# Altium footprint library Passives.PcbLib: 75 footprints (part 1 of 5)
Each footprint in its own frame and in the unit in brackets; x right, y up, seen from the top. Pads: shape width x height; smd on the part's side, far side on the other; paste and mask are expansions set on the pad; w line width, h text height; cw(c..) or ccw(c..) is an arc to the next point about the centre after c.
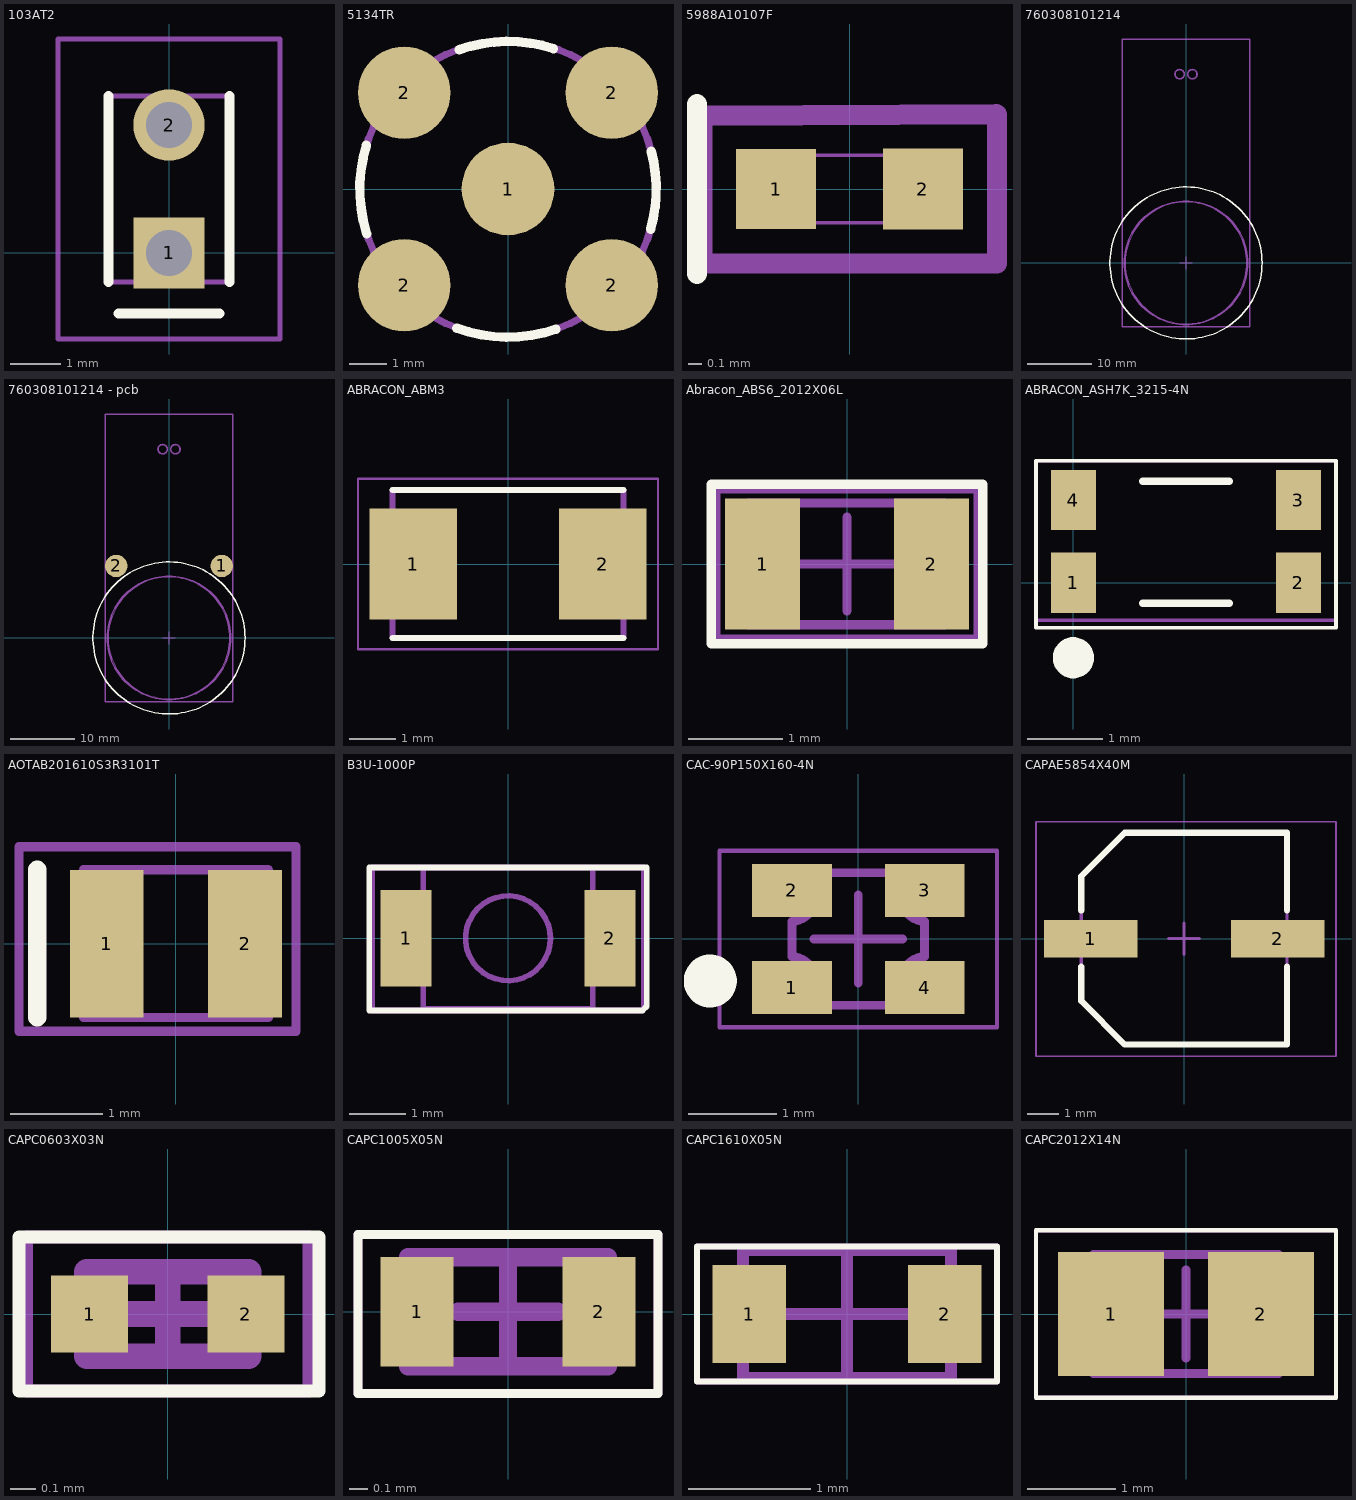
[diagram p0: the footprints below, top view; thin cyan lines are the x and y axes]

## 103AT2 [mm]
pads (2):
  rect 1.416x1.416 hole 0.91: 1(0,0)
  round 1.416 hole 0.91: 2(0,2.54)
Top Overlay:
  lines w0.2: -1.2,-0.58 -1.2,3.12 ; -1,-1.2 1,-1.2 ; 1.2,-0.58 1.2,3.12
Bottom Overlay:
  lines w0.2: -1.2,-0.6 -1.2,3.1 ; -1,-1.22 1,-1.22 ; 1.2,-0.6 1.2,3.1
Top Assembly:
  lines w0.1: -1.2,-0.58 -1.2,3.12 1.2,3.12 1.2,-0.58 -1.2,-0.58
Bottom Assembly (Mech20):
  lines w0.1: -2.2,-1.708 -2.2,4.248 2.2,4.248 2.2,-1.708 -2.2,-1.708
3D body "103AT-2.stp": height 6.5, standoff -10.5, extent -1.2,-0.55 1.2,3.15

## 5134TR [mm]
pads (5):
  round 2.5 smd: 1(0,0) 2(-2.8,-2.6) 2(-2.8,2.6) 2(2.8,-2.6) 2(2.8,2.6)
Top Overlay:
  lines w0.254: -3.824,1.177 ccw(c0,0) -3.816,-1.205 ; -1.383,-3.755 ccw(c0,0) 1.295,-3.786 ; -1.321,3.76 cw(c0,0) 1.229,3.791 ; 3.851,-1.086 ccw(c0,0) 3.87,1.018
Top Assembly:
  circle w0.2: c0,0 r4
Top Courtyard:
  circle w0.2: c0,0 r4
  text ".Designator" at -0.1,-0.1 h1.52
3D body "keystone-PN5134TR.STEP": height 0.5, standoff 0, extent -5.939,-5.939 5.939,5.939

## 5988A10107F [mm]
pads (2):
  rect 0.6x0.6 smd paste+0 mask+0: 1(-0.55,0)
  rect 0.597x0.61 smd paste+0 mask+0: 2(0.55,0)
Top Overlay:
  lines w0.152: -1.143,-0.635 -1.143,0.635
Top 3D Body:
  lines w0.025: -0.495,-0.254 -0.495,0.254 0.495,0.254 0.495,-0.254 -0.495,-0.254
Top Assembly:
  lines w0.152: -1.105,-0.559 -1.105,0.559 ; -1.1,-0.559 1.1,-0.559 ; -1.075,0.55 1.1,0.56 ; 1.105,-0.559 1.105,0.559
Top Courtyard:
  text ".Designator" at -0.973,-0.206 h0.8
3D body "LED_5988A10107F_DIA.step": height 0.41, standoff 0, extent -0.495,-0.257 0.495,0.257

## 760308101214 [mm] "Wireless Power Transfer Receiver Coil,  Dia 19mm"
height 0.8
Top Overlay:
  circle w0.2: c0,0 r11.885
Board:
  text "Pitch 2mm min." at -6,27 h2
Mechanical 11:
  circle w0.1: c0,0 r9.5
Top Assembly:
  circle w0.254: c1,29.5 r0.728
  circle w0.254: c-1,29.5 r0.728
  lines w0.1: -1,0 1,0 ; 0,-1 0,1
  lines w0.2: -10,-10 -10,35 10,35 10,-10 -10,-10
Top Courtyard:
  circle w0.2: c0,0 r9.65
  lines w0.2: -10,-10 10,-10 10,35 -10,35 -10,-10
  text ".Designator" at 0,0 h1.52
3D body "760308101214.stp": height 0.91, standoff 0.05, extent -9.499,-9.5 9.5,34.5

## 760308101214 - pcb [mm] "Wireless Power Transfer Receiver Coil,  Dia 19mm"
height 0.8
pads (2):
  round 3.5 smd paste+0: 1(8.25,11.25) 2(-8.25,11.25)
Top Overlay:
  circle w0.2: c0,0 r11.885
Board:
  text "Pitch 2mm min." at -6,27 h2
Mechanical 11:
  circle w0.1: c0,0 r9.5
Top Assembly:
  circle w0.254: c1,29.5 r0.728
  circle w0.254: c-1,29.5 r0.728
  lines w0.1: -1,0 1,0 ; 0,-1 0,1
  lines w0.2: -10,-10 -10,35 10,35 10,-10 -10,-10
Top Courtyard:
  circle w0.2: c0,0 r9.65
  lines w0.2: -10,-10 10,-10 10,35 -10,35 -10,-10
  text ".Designator" at 0,0 h1.52
3D body "760308101214.stp": height 0.91, standoff 0.05, extent -9.499,-9.5 9.5,34.5

## ABRACON_ABM3 [mm]
height 1.3
pads (2):
  rect 1.9x2.4 smd: 1(-2.05,0) 2(2.05,0)
Top Overlay:
  lines w0.127: -2.5,-1.6 2.5,-1.6 ; -2.5,1.6 2.5,1.6
Top 3D Body:
  lines w0.127: -2.5,-1.6 -2.5,1.6 2.5,1.6 2.5,-1.6 -2.5,-1.6
Top Assembly:
  lines w0.05: -3.25,-1.85 -3.25,1.85 3.25,1.85 3.25,-1.85 -3.25,-1.85
Top Courtyard:
  text ".Designator" at 0,0.261 h1.52
3D body "step_temp.STEP": height 1.3, standoff 0, extent -2.5,-1.6 2.5,1.6

## Abracon_ABS6_2012X06L [mm] "Abracon ABS06 Series, 2-Leads, Body 2.0x1.2mm, IPC High Density"
height 0.6
pads (2):
  rect 0.8x1.4 smd: 1(-0.9,0) 2(0.9,0)
Top Overlay:
  lines w0.1: -1.45,-0.85 1.45,-0.85 1.45,0.85 -1.45,0.85 -1.45,-0.85
Top 3D Body:
  lines w0.1: -1.05,-0.65 1.05,-0.65 1.05,0.65 -1.05,0.65 -1.05,-0.65
Top Assembly:
  lines w0.1: -0.5,0 0.5,0 ; 0,-0.5 0,0.5 ; -1.4,-0.8 -1.4,0.8 1.4,0.8 1.4,-0.8 -1.4,-0.8
Top Courtyard:
  lines w0.1: -1.4,-0.8 -1.4,0.8 1.4,0.8 1.4,-0.8 -1.4,-0.8
  text ".Designator" at -0.375,-0.075 h0.5
3D body: height 0.6, standoff 0, extent -1.05,-0.65 1.05,0.65

## ABRACON_ASH7K_3215-4N [mm] "Length 3.2mm, width 1.5mm, height 1mm, SMD-4"
height 1
pads (4):
  rect 0.6x0.8 smd mask+0.05: 1(0,0) 2(3,0) 3(3,1.1) 4(0,1.1)
Top Overlay:
  circle w0.3: c0,-1 r0.125
  lines w0.05: -0.5,-0.6 -0.5,1.625 3.5,1.625 3.5,-0.6 -0.5,-0.6
  lines w0.1: 0.925,-0.275 2.075,-0.275 ; 0.925,1.35 2.075,1.35
Top Assembly:
  lines w0.05: -0.5,-0.5 3.5,-0.5 3.5,1.625 -0.5,1.625 -0.5,-0.5
Top Courtyard:
  lines w0.05: -0.5,-0.5 3.5,-0.5 3.5,1.625 -0.5,1.625 -0.5,-0.5
  text ".Designator" at 0.525,0.325 h0.7
3D body: height 1, standoff 0, extent 0.001,-0.224 2.999,1.324

## AOTAB201610S3R3101T [mm]
pads (2):
  rect 0.8x1.6 smd: 1(-0.75,0) 2(0.75,0)
Top Overlay:
  lines w0.2: -1.5,-0.8 -1.5,0.8
Top Assembly:
  lines w0.1: -1.7,-0.95 1.3,-0.95 1.3,1.05 -1.7,1.05 -1.7,-0.95
Top Courtyard:
  lines w0.1: -1,-0.8 -1,0.8 1,0.8 1,-0.8 -1,-0.8
3D body "AOTA-B201610S3R3-101-T.stp": height 1, standoff 0, extent -1,-0.8 1,0.8

## B3U-1000P [mm]
pads (2):
  rect 0.9x1.7 smd: 1(-1.8,0) 2(1.8,0)
Top Overlay:
  lines w0.1: -2.45,-1.275 2.375,-1.275 2.45,-1.2 2.45,1.25 -2.45,1.25 -2.45,-1.275
Top Assembly:
  circle w0.1: c0,0 r0.75
  lines w0.1: -1.5,-0.7 -2,-0.7 -2,0.7 -1.5,0.7 ; 1.5,-0.7 2,-0.7 2,0.7 1.5,0.7 ; -1.5,-1.25 1.5,-1.25 1.5,1.25 -1.5,1.25 -1.5,-1.25
Top Courtyard:
  lines w0.1: -2.4,-1.275 -2.4,1.25 2.4,1.25 2.4,-1.25 2.375,-1.275 -2.4,-1.275
  text ".Designator" at -0.05,-0.05 h0.7
3D body: height 1.6, standoff 1.2, extent -0.744,-0.748 0.75,0.749
3D body: height 1.2, standoff 0, extent -1.499,-1.249 1.499,1.249
3D body: height 0.05, standoff 0, extent -1.999,-0.699 -1.501,0.699
3D body: height 0.05, standoff 0, extent 1.501,-0.699 1.999,0.699

## CAC-90P150X160-4N [mm] "Chip Array, Concave, 4-Leads, Pitch 0.90mm,  Body 1.50x1.60mm,  IPC Medium Density"
height 0.35
pads (4):
  rect 0.9x0.6 smd: 1(-0.75,-0.55) 2(-0.75,0.55) 3(0.75,0.55) 4(0.75,-0.55)
Top Overlay:
  circle w0.3: c-1.675,-0.475 r0.15
Top 3D Body:
  lines w0.1: -0.75,-0.75 -0.75,-0.7 ccw(c-0.75,-0.45) -0.75,-0.2 -0.75,0.2 ccw(c-0.75,0.45) -0.75,0.7 -0.75,0.75 0.75,0.75 0.75,0.7 ccw(c0.75,0.45) 0.75,0.2 0.75,-0.2 ccw(c0.75,-0.45) 0.75,-0.7 0.75,-0.75 -0.75,-0.75
Top Assembly:
  lines w0.1: -0.5,0 0.5,0 ; 0,-0.5 0,0.5
Top Courtyard:
  lines w0.05: -1.57,-1 -1.57,1 1.57,1 1.57,-1 -1.57,-1
  text ".Designator" at -0.88,-0.23 h0.6
3D body "CAC-90P150X160-4N.step": height 0.35, standoff 0, extent -0.85,-0.75 0.85,0.75

## CAPAE5854X40M [mm] "Aluminum Electrolytic Capacitor, Body 5.45x5.45x3.95mm, IPC Low Density"
height 3.95
pads (2):
  rect 3x1.2 smd: 1(-3,0) 2(3,0)
Top Overlay:
  lines w0.2: -3.3,-0.9 -3.3,-2 -1.9,-3.4 3.3,-3.4 3.3,-0.9 ; -3.3,0.9 -3.3,2 -1.9,3.4 3.3,3.4 3.3,0.9
Top 3D Body:
  lines w0.1: -3.3,-2 -3.3,2 -1.9,3.4 3.3,3.4 3.3,-3.4 -1.9,-3.4 -3.3,-2
Top Assembly:
  lines w0.05: -4.75,-3.775 -4.75,3.75 4.875,3.75 4.875,-3.775 -4.75,-3.775
  lines w0.1: -0.5,0 0.5,0 ; 0,-0.5 0,0.5
Top Courtyard:
  lines w0.05: -4.75,-3.775 4.875,-3.775 4.875,3.75 -4.75,3.75 -4.75,-3.775
  text ".Designator" at -4.025,-0.35 h1.52
3D body "CAPAE5854X40M.step": height 3.95, standoff -1.2, extent -3.3,-3.4 3.3,3.4

## CAPC0603X03N [mm] "Chip Capacitor, 2-Leads, Body 0.60x0.30mm, IPC Medium Density"
height 0.33
pads (2):
  rect 0.3x0.3 smd mask+0.04: 1(-0.305,0) 2(0.305,0)
Top Overlay:
  lines w0.05: -0.58,-0.3 0.59,-0.3 0.59,0.3 -0.58,0.3 -0.58,-0.3
Top 3D Body:
  lines w0.1: -0.315,-0.165 0.315,-0.165 0.315,0.165 -0.315,0.165 -0.315,-0.165
Top Assembly:
  lines w0.05: -0.55,-0.3 -0.55,0.3 0.55,0.3 0.55,-0.3 -0.55,-0.3
  lines w0.1: -0.165,0 0.165,0 ; 0,-0.165 0,0.165
Top Courtyard:
  lines w0.05: -0.55,-0.3 -0.55,0.3 0.55,0.3 0.55,-0.3 -0.55,-0.3
  text ".Designator" at -0.525,-0.125 h0.3
3D body "CAPC0603X03N.step": height 0.33, standoff 0, extent -0.315,-0.165 0.315,0.165

## CAPC1005X05N [mm] "Chip Capacitor, 2-Leads, Body 1.00x0.50mm, IPC Medium Density"
height 0.5
pads (2):
  rect 0.4x0.6 smd mask+0.04: 1(-0.5,0) 2(0.5,0)
Top Overlay:
  lines w0.05: -0.825,-0.45 0.825,-0.45 0.825,0.425 -0.825,0.425 -0.825,-0.45
Top 3D Body:
  lines w0.1: -0.55,-0.3 0.55,-0.3 0.55,0.3 -0.55,0.3 -0.55,-0.3
Top Assembly:
  lines w0.05: -0.825,-0.45 -0.825,0.425 0.825,0.425 0.825,-0.45 -0.825,-0.45
  lines w0.1: -0.275,0 0.275,0 ; 0,-0.275 0,0.275
Top Courtyard:
  lines w0.05: -0.825,-0.45 -0.825,0.425 0.825,0.425 0.825,-0.45 -0.825,-0.45
  text ".Designator" at -0.624,-0.115 h0.4
3D body "CAPC1005X06N.step": height 0.6, standoff 0, extent -0.55,-0.3 0.55,0.3

## CAPC1610X05N [mm] "Chip Capacitor, 2-Leads, Body 1.60x1.00mm, IPC Medium Density"
height 0.5
pads (2):
  rect 0.6x0.8 smd mask+0.05: 1(-0.8,0) 2(0.8,0)
Top Overlay:
  lines w0.05: -1.225,-0.55 -1.225,0.55 1.225,0.55 1.225,-0.55 -1.225,-0.55
Top 3D Body:
  lines w0.1: -0.85,-0.525 -0.85,0.525 0.85,0.525 0.85,-0.525 -0.85,-0.525
Top Assembly:
  lines w0.05: -1.225,-0.55 1.225,-0.55 1.225,0.55 -1.225,0.55 -1.225,-0.55
  lines w0.1: -0.5,0 0.5,0 ; 0,-0.5 0,0.5
Top Courtyard:
  lines w0.05: -1.225,-0.55 1.225,-0.55 1.225,0.55 -1.225,0.55 -1.225,-0.55
  text ".Designator" at -1.019,-0.113 h0.5
3D body "CAPC1610X10N.step": height 1, standoff 0, extent -0.85,-0.525 0.85,0.525

## CAPC2012X14N [mm] "Chip Capacitor, 2-Leads, Body 2.00x1.25mm, IPC Medium Density"
height 1.35
pads (2):
  rect 1.2x1.4 smd: 1(-0.85,0) 2(0.85,0)
Top Overlay:
  lines w0.05: -1.7,-0.95 -1.7,0.95 1.7,0.95 1.7,-0.95 -1.7,-0.95
Top 3D Body:
  lines w0.1: -1.05,-0.675 -1.05,0.675 1.05,0.675 1.05,-0.675 -1.05,-0.675
Top Assembly:
  lines w0.05: -1.7,-0.95 -1.7,0.95 1.7,0.95 1.7,-0.95 -1.7,-0.95
  lines w0.1: -0.5,0 0.5,0 ; 0,-0.5 0,0.5
Top Courtyard:
  lines w0.05: -1.7,-0.95 -1.7,0.95 1.7,0.95 1.7,-0.95 -1.7,-0.95
  text ".Designator" at -1.508,-0.233 h0.7
3D body "CAPC2012X14N.step": height 1.35, standoff 0, extent -1.05,-0.675 1.05,0.675